# Altium schematic symbol library Display.SchLib: 1 symbol
Pins are listed as number, name and electrical type; pins without a type are passive.

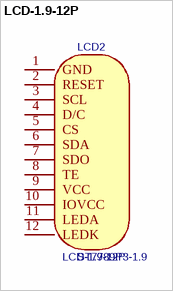
[diagram p0: symbol LCD-1.9-12P]

## LCD-1.9-12P
designator LCD2, comment ST7789P3-1.9  Device: LCD-1.9-12P
TFT LCD Module, 1.9 Inch, 170x320, ST7789P3, 12Pin, Solder Type; Add into BOM: yes; ModelId: b73227dcdbd941138430c96e3aa4d41c聨0819f05c4eef4c71ace90d822a990e87; ModelName: 显示屏 1.9; ModelTransform: 1942.5158060073852,984.2499999999999,88.58249589338898,0,0,0,-161.41732,29.92126,0; Symbol: LCD-1.9-12P; Convert to PCB: yes; FootprintName: LCD-FPC-12P-0.5
footprint LCD-FPC-12P-0.5
pins: 1 GND, 2 RESET, 3 SCL, 4 D/C, 5 CS, 6 SDA, 7 SDO, 8 TE, 9 VCC, 10 IOVCC, 11 LEDA, 12 LEDK